# EAGLE library part WE-TVS-HS_SOT23-6L_82400102 (library Eagle_WE-TVS (rev26a))
WE-TVS TVS Diode – High Speed Series Characteristics Low clamping voltage Sturdy design Very low capacitance Flow Thru Design for a simple layout Rail to Rail protection Epoxy flame resistant UL94-V0 RoHS, REACH and free of halogens Applications Very fast data lines USB 2.0 Ethernet PoE VGA Sim Cards Keypads HS = High Speed <https://www.we-online.com/components/media/o14883v209%20Family_WE-TVS_HIGHSPEED.jpg> Details see: www.we-online.com/en/components/products/WE-TVS-HS <www.we-online.com/catalog/WE-CAIR/?utm_source=eagle_model&utm_medium=description_link&utm_campaign=eisos_eagle> Updated by Ella Wu 2019-07-12 2019 (C) Wurth Elektronik
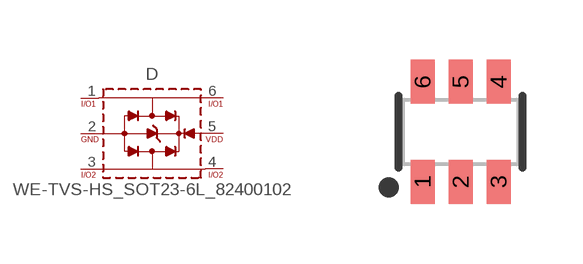
[diagram p6: symbol with the pads of WE-TVS_SOT23-6L; footprint WE-TVS_SOT23-6L]

Designator prefix D

## WE-TVS-HS_SOT23-6L_82400102 (CCH-TYP: 2pF; CHANNELS: 2+1; DATASHEET-URL: https://www.we-online.com/redexpert/spec/82400102?ae; HEIGHT: 1.16mm; IPEAK: 7A; LENGTH: 2.9mm; MOUNT: SMT; PART-NUMBER: 82400102; POLARITY: Unidirectional; SIZE: SOT23-6L; VALUE: 82400102; VBR-MIN: 6V; VCH-CLAMP-ESD: 10V; VCH-MAX: 5V; VESD-CONTACT: 8kV; WIDTH: 2.8mm)  [WE-TVS_SOT23-6L]
1  I/O1  pas
2  GND  pas
3  I/O2  pas
4  I/O4  pas
5  VDD  pas
6  I/O3  pas

## Footprint WE-TVS_SOT23-6L (pad centres in mm)
WE-TVS TVS Diode Size: SOT23-6L L X W X H = 2.8mm X 2.9mm X 1.45mm
smd 0.6 x 1.1: 1 -0.95,-1.25; 2 0,-1.25; 3 0.95,-1.25; 4 0.95,1.25; 5 0,1.25; 6 -0.95,1.25